# EAGLE library part PINHDR_1X20 (library Dal_V2)
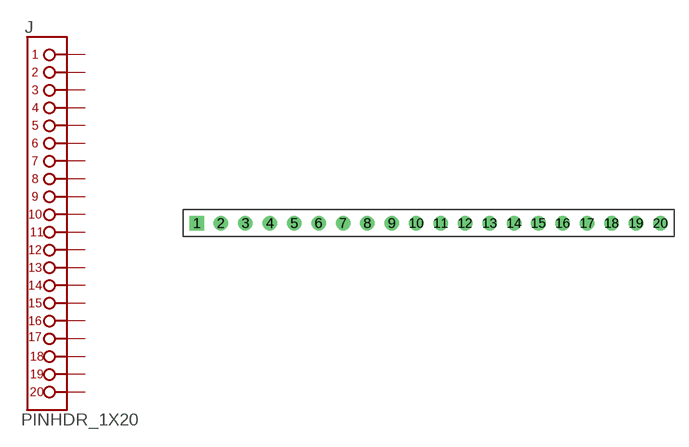
[diagram p29: symbol with the pads of PINHDR_TH_100_1X20; footprint PINHDR_TH_100_1X20]

Designator prefix J

## PINHDR_1X20  [PINHDR_TH_100_1X20]
1  1  pas
2  2  pas
3  3  pas
4  4  pas
5  5  pas
6  6  pas
7  7  pas
8  8  pas
9  9  pas
10  10  pas
11  11  pas
12  12  pas
13  13  pas
14  14  pas
15  15  pas
16  16  pas
17  17  pas
18  18  pas
19  19  pas
20  20  pas

## Footprint PINHDR_TH_100_1X20 (pad centres in mm)
drill 1 square: 1 0.02,0
drill 1: 2 2.52,0; 3 5.06,0; 4 7.6,0; 5 10.14,0; 6 12.68,0; 7 15.22,0; 8 17.76,0; 9 20.3,0; 10 22.84,0; 11 25.38,0; 12 27.92,0; 13 30.46,0; 14 33,0; 15 35.54,0; 16 38.08,0; 17 40.62,0; 18 43.16,0; 19 45.7,0; 20 48.24,0